# Altium schematic symbol library IRM-01.SchLib: 1 symbol
Pins are listed as number, name and electrical type; pins without a type are passive.

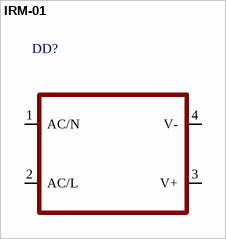
[diagram p0: symbol IRM-01]

## IRM-01
designator DD?
footprint IRM-01
pins: 1 AC/N, 2 AC/L, 3 V+, 4 V-